# EAGLE library part AT86RF212 (library Atmel)
Low Power 900 MHz Transceiver for IEEE 802.15.4-2006, Zigbee and ISM Apps
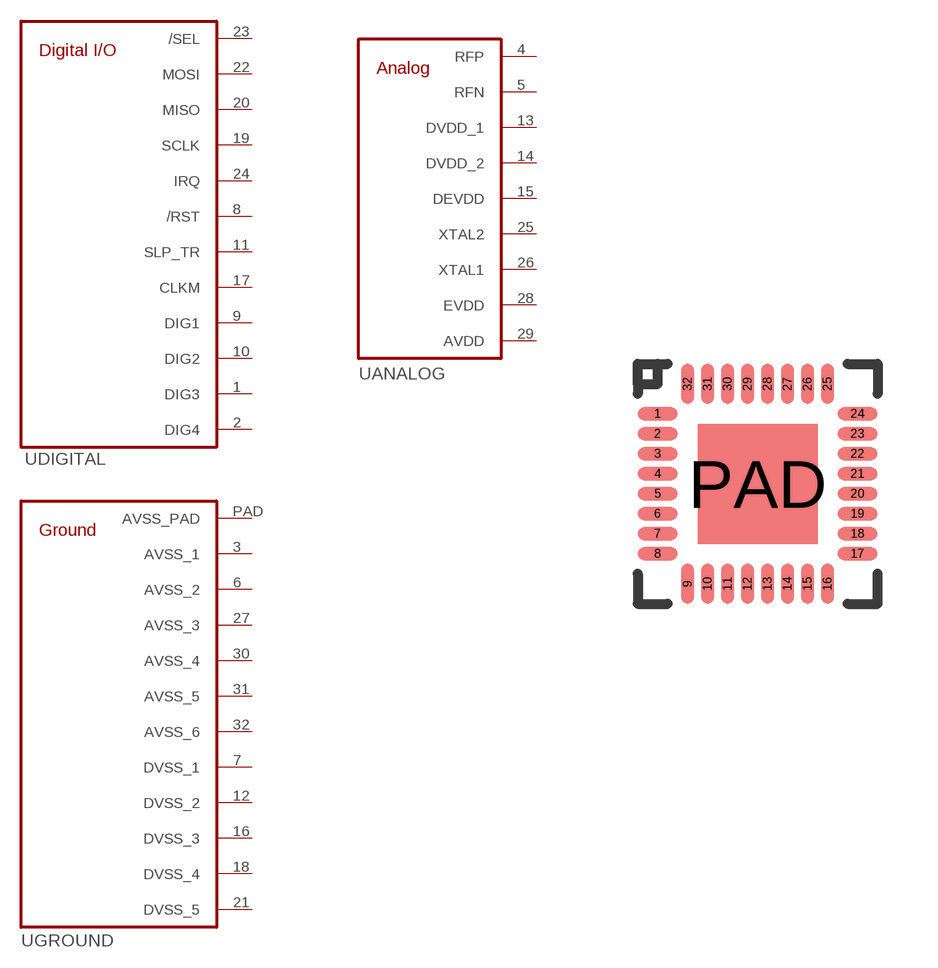
[diagram p9: symbol with the pads of QFN32; footprint QFN32]

Designator prefix -; gates DIGITAL=AT86RF212-DIGITAL GROUND=AT86RF212-GROUND ANALOG=AT86RF212-ANALOG

## AT86RF212  [QFN32]
1  DIGITAL:DIG3
2  DIGITAL:DIG4
3  GROUND:AVSS_1
4  ANALOG:RFP
5  ANALOG:RFN
6  GROUND:AVSS_2
7  GROUND:DVSS_1
8  DIGITAL:/RST
9  DIGITAL:DIG1
10  DIGITAL:DIG2
11  DIGITAL:SLP_TR
12  GROUND:DVSS_2
13  ANALOG:DVDD_1
14  ANALOG:DVDD_2
15  ANALOG:DEVDD
16  GROUND:DVSS_3
17  DIGITAL:CLKM
18  GROUND:DVSS_4
19  DIGITAL:SCLK
20  DIGITAL:MISO
21  GROUND:DVSS_5
22  DIGITAL:MOSI
23  DIGITAL:/SEL
24  DIGITAL:IRQ
25  ANALOG:XTAL2
26  ANALOG:XTAL1
27  GROUND:AVSS_3
28  ANALOG:EVDD
29  ANALOG:AVDD
30  GROUND:AVSS_4
31  GROUND:AVSS_5
32  GROUND:AVSS_6
PAD  GROUND:AVSS_PAD

## Footprint QFN32 (pad centres in mm)
smd 1 x 0.32: 1 -2.5,1.75; 2 -2.5,1.25; 3 -2.5,0.75; 4 -2.5,0.25; 5 -2.5,-0.25; 6 -2.5,-0.75; 7 -2.5,-1.25; 8 -2.5,-1.75; 17 2.5,-1.75; 18 2.5,-1.25; 19 2.5,-0.75; 20 2.5,-0.25; 21 2.5,0.25; 22 2.5,0.75; 23 2.5,1.25; 24 2.5,1.75
smd 0.32 x 1: 9 -1.75,-2.5; 10 -1.25,-2.5; 11 -0.75,-2.5; 12 -0.25,-2.5; 13 0.25,-2.5; 14 0.75,-2.5; 15 1.25,-2.5; 16 1.75,-2.5; 25 1.75,2.5; 26 1.25,2.5; 27 0.75,2.5; 28 0.25,2.5; 29 -0.25,2.5; 30 -0.75,2.5; 31 -1.25,2.5; 32 -1.75,2.5
smd 3 x 3: PAD 0,0